# Altium footprint library PCB1.PcbLib: 40 footprints (part 2 of 3)
Each footprint in its own frame and in the unit in brackets; x right, y up, seen from the top. Pads: shape width x height; smd on the part's side, far side on the other; paste and mask are expansions set on the pad; w line width, h text height; cw(c..) or ccw(c..) is an arc to the next point about the centre after c.
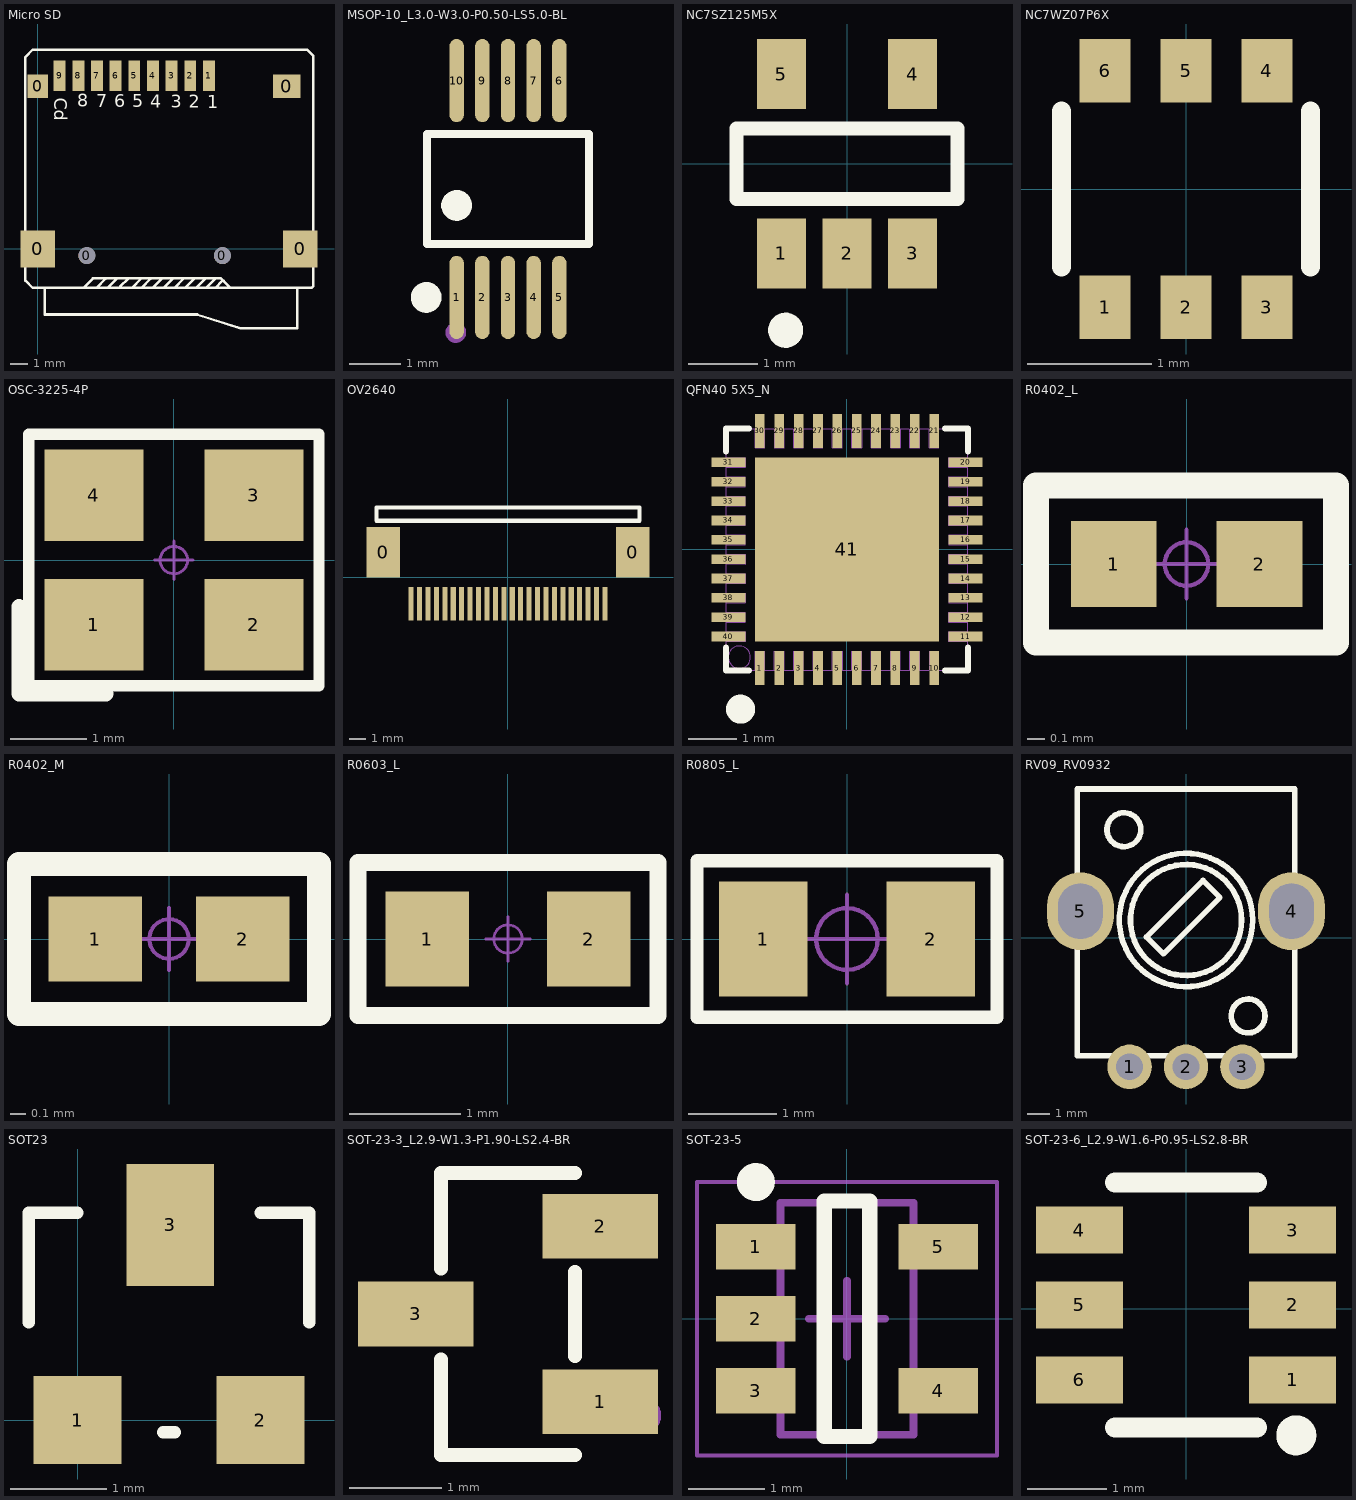
[diagram p1: the footprints below, top view; thin cyan lines are the x and y axes]

## Micro SD [mm]
pads (15):
  rect 2.032x2.2 smd: 0(0,0) 0(15.5,0)
  rect 1.2x1.4 smd: 0(0,9.6)
  round 1 hole 1 unplated: 0(2.9,-0.4) 0(10.9,-0.4)
  rect 1.6x1.4 smd: 0(14.7,9.6)
  rect 0.7x1.8 smd: 1(10.1,10.227) 2(9,10.227) 3(7.9,10.227) 4(6.8,10.227) 5(5.7,10.227) 6(4.6,10.227) 7(3.5,10.227) 8(2.4,10.227) 9(1.3,10.227)
Top Overlay:
  lines w0.152: 0.423,-2.295 0.423,-3.87 9.414,-3.87 ; 3.471,-2.295 4.004,-1.762 4.004,-1.736 ; 4.131,-2.295 4.639,-1.787 4.639,-1.736 ; 4.868,-2.295 4.868,-2.219 5.35,-1.736 ; 5.553,-2.295 6.112,-1.736 6.138,-1.736 ; 6.138,-2.295 6.671,-1.762 6.671,-1.736 ; 6.773,-2.295 7.331,-1.736 7.433,-1.736 ; 7.433,-2.295 7.992,-1.736 8.017,-1.736 ; 8.068,-2.295 8.601,-1.762 8.601,-1.736 ; 8.703,-2.295 9.262,-1.736 9.389,-1.736 ; 9.338,-2.295 9.897,-1.736 9.922,-1.736 ; 9.389,-3.87 11.954,-4.683 15.307,-4.683 15.307,-2.321 ; 9.922,-2.295 10.481,-1.736 ; 10.481,-2.295 10.887,-1.889 10.964,-1.889 ; -0.289,-2.295 -0.72,-1.863 -0.72,11.319 -0.289,11.751 15.891,11.751 16.272,11.37 16.272,-2.194 16.171,-2.295 ; -0.289,-2.295 16.171,-2.295 ; -0.289,-2.295 2.709,-2.295 3.267,-1.736 10.811,-1.736 11.37,-2.295 16.171,-2.295
  text "Cd" at 0.981,8.932 h0.76
  text "8" at 2.328,8.373 h0.76
  text "7" at 3.445,8.347 h0.76
  text "6" at 4.512,8.347 h0.76
  text "5" at 5.579,8.347 h0.76
  text "4" at 6.646,8.322 h0.76
  text "3" at 7.839,8.322 h0.76
  text "2" at 8.906,8.322 h0.76
  text "1" at 9.998,8.297 h0.76
3D body "sdcard.STEP": height 1.8, standoff -0.7, extent -0.272,-4.625 16.002,10.569

## MSOP-10_L3.0-W3.0-P0.50-LS5.0-BL [mm]
pads (10):
  oval 0.28x1.62 smd paste+0 mask+0.051: 1(456.035,-344.857) 2(456.535,-344.857) 3(457.035,-344.857) 4(457.535,-344.857) 5(458.035,-344.857) 6(458.035,-340.637) 7(457.535,-340.637) 8(457.035,-340.637) 9(456.535,-340.637) 10(456.035,-340.637)
Top Overlay:
  circle w0.3: c455.443,-344.857 r0.15
  circle w0.3: c456.035,-343.066 r0.15
  lines w0.152: 455.459,-343.819 458.611,-343.819 458.611,-341.676 455.459,-341.676 455.459,-343.819
Mechanical 15:
  circle w0.2: c456.019,-345.541 r0.1

## NC7SZ125M5X [mil]
pads (5):
  rect 28x40 smd: 1(-37.4,-51.18) 2(0,-51.18) 3(37.4,-51.18) 4(37.4,51.18) 5(-37.4,51.18)
Top Overlay:
  circle w10: c-35,-95 r5
  lines w8: -63,-20 -63,20 63,20 63,-20 -63,-20

## NC7WZ07P6X [mil]
pads (6):
  rect 16x20 smd: 1(-25.59,-37.4) 2(0,-37.4) 3(25.59,-37.4) 4(25.59,37.4) 5(0,37.4) 6(-25.59,37.4)
Top Overlay:
  lines w6: -39.37,-24.61 -39.37,24.61 ; 39.37,-24.61 39.37,24.61

## OSC-3225-4P [mm]
pads (4):
  rect 1.3x1.2 smd: 1(-1.05,-0.85) 2(1.05,-0.85) 3(1.05,0.85) 4(-1.05,0.85)
Top Overlay:
  lines w0.15: -1.905,-1.651 1.905,-1.651 1.905,1.651 -1.905,1.651 -1.905,-1.651
  lines w0.2: -2.032,-1.753 -0.889,-1.753 ; -2.032,-1.727 -2.032,-0.61
Mechanical 15:
  circle w0.04: c0,0 r0.18
  lines w0.04: -0.254,0 0.254,0 ; 0,-0.254 0,0.254
3D body "OSC_3225-4.STEP": height 0.7, standoff -0.02, extent -1.6,-1.25 1.6,1.25

## OV2640 [mm]
pads (26):
  rect 2x3 smd: 0(-7.4,1.476) 0(7.4,1.476)
  rect 0.3x2 smd: 1(-5.746,-1.574) 2(-5.248,-1.576) 3(-4.748,-1.576) 4(-4.248,-1.576) 5(-3.748,-1.576) 6(-3.248,-1.576) 7(-2.748,-1.576) 8(-2.248,-1.576) 9(-1.748,-1.576) 10(-1.248,-1.576) 11(-0.748,-1.576) 12(-0.248,-1.576) 13(0.252,-1.576) 14(0.752,-1.576) 15(1.252,-1.576) 16(1.752,-1.576) 17(2.252,-1.576) 18(2.752,-1.576) 19(3.252,-1.576) 20(3.752,-1.576) 21(4.252,-1.576) 22(4.752,-1.576) 23(5.252,-1.576) 24(5.752,-1.576)
Top Overlay:
  lines w0.254: -7.8,3.342 7.8,3.342 7.8,4.135 -7.8,4.135 -7.8,3.342

## QFN40 5X5_N [mm]
pads (41):
  rect 0.2x0.7 smd mask+0.05: 1(-1.8,-2.45) 2(-1.4,-2.45) 3(-1,-2.45) 4(-0.6,-2.45) 5(-0.2,-2.45) 6(0.2,-2.45) 7(0.6,-2.45) 8(1,-2.45) 9(1.4,-2.45) 10(1.8,-2.45) 21(1.8,2.45) 22(1.4,2.45) 23(1,2.45) 24(0.6,2.45) 25(0.2,2.45) 26(-0.2,2.45) 27(-0.6,2.45) 28(-1,2.45) 29(-1.4,2.45) 30(-1.8,2.45)
  rect 0.7x0.2 smd mask+0.05: 11(2.45,-1.8) 12(2.45,-1.4) 13(2.45,-1) 14(2.45,-0.6) 15(2.45,-0.2) 16(2.45,0.2) 17(2.45,0.6) 18(2.45,1) 19(2.45,1.4) 20(2.45,1.8) 31(-2.45,1.8) 32(-2.45,1.4) 33(-2.45,1) 34(-2.45,0.6) 35(-2.45,0.2) 36(-2.45,-0.2) 37(-2.45,-0.6) 38(-2.45,-1) 39(-2.45,-1.4) 40(-2.45,-1.8)
  rect 3.8x3.8 smd mask+0.05: 41(0,0)
Top Overlay:
  circle w0.4: c-2.2,-3.3 r0.1
  lines w0.12: -2.5,-2.025 -2.5,-2.5 -2.025,-2.5 ; -2.5,2.025 -2.5,2.5 -2.025,2.5 ; 2.025,-2.5 2.5,-2.5 2.5,-2.025 ; 2.025,2.5 2.5,2.5 2.5,2.025
Mechanical 13:
  circle w0.01: c-2.225,-2.225 r0.23
  lines w0.01: -2.5,-1.9 -2.1,-1.9 -2.1,-1.7 -2.5,-1.7 ; -2.5,-1.5 -2.1,-1.5 -2.1,-1.3 -2.5,-1.3 ; -2.5,-1.1 -2.1,-1.1 -2.1,-0.9 -2.5,-0.9 ; -2.5,-0.7 -2.1,-0.7 -2.1,-0.5 -2.5,-0.5 ; -2.5,-0.3 -2.1,-0.3 -2.1,-0.1 -2.5,-0.1 ; -2.5,0.1 -2.1,0.1 -2.1,0.3 -2.5,0.3 ; -2.5,0.5 -2.1,0.5 -2.1,0.7 -2.5,0.7 ; -2.5,0.9 -2.1,0.9 -2.1,1.1 -2.5,1.1 ; -2.5,1.3 -2.1,1.3 -2.1,1.5 -2.5,1.5 ; -2.5,1.7 -2.1,1.7 -2.1,1.9 -2.5,1.9 ; -1.9,-2.5 -1.9,-2.1 -1.7,-2.1 -1.7,-2.5 ; -1.9,2.5 -1.9,2.1 -1.7,2.1 -1.7,2.5 ; -1.5,-2.5 -1.5,-2.1 -1.3,-2.1 -1.3,-2.5 ; -1.5,2.5 -1.5,2.1 -1.3,2.1 -1.3,2.5 ; -1.1,-2.5 -1.1,-2.1 -0.9,-2.1 -0.9,-2.5 ; -1.1,2.5 -1.1,2.1 -0.9,2.1 -0.9,2.5 ; -0.7,-2.5 -0.7,-2.1 -0.5,-2.1 -0.5,-2.5 ; -0.7,2.5 -0.7,2.1 -0.5,2.1 -0.5,2.5 ; -0.3,-2.5 -0.3,-2.1 -0.1,-2.1 -0.1,-2.5 ; -0.3,2.5 -0.3,2.1 -0.1,2.1 -0.1,2.5 ; 0.1,-2.5 0.1,-2.1 0.3,-2.1 0.3,-2.5 ; 0.1,2.5 0.1,2.1 0.3,2.1 0.3,2.5 ; 0.5,-2.5 0.5,-2.1 0.7,-2.1 0.7,-2.5 ; 0.5,2.5 0.5,2.1 0.7,2.1 0.7,2.5 ; 0.9,-2.5 0.9,-2.1 1.1,-2.1 1.1,-2.5 ; 0.9,2.5 0.9,2.1 1.1,2.1 1.1,2.5 ; 1.3,-2.5 1.3,-2.1 1.5,-2.1 1.5,-2.5 ; 1.3,2.5 1.3,2.1 1.5,2.1 1.5,2.5 ; 1.7,-2.5 1.7,-2.1 1.9,-2.1 1.9,-2.5 ; 1.7,2.5 1.7,2.1 1.9,2.1 1.9,2.5 ; 2.5,-1.9 2.1,-1.9 2.1,-1.7 2.5,-1.7 ; 2.5,-1.5 2.1,-1.5 2.1,-1.3 2.5,-1.3 ; 2.5,-1.1 2.1,-1.1 2.1,-0.9 2.5,-0.9 ; 2.5,-0.7 2.1,-0.7 2.1,-0.5 2.5,-0.5 ; 2.5,-0.3 2.1,-0.3 2.1,-0.1 2.5,-0.1 ; 2.5,0.1 2.1,0.1 2.1,0.3 2.5,0.3 ; 2.5,0.5 2.1,0.5 2.1,0.7 2.5,0.7 ; 2.5,0.9 2.1,0.9 2.1,1.1 2.5,1.1 ; 2.5,1.3 2.1,1.3 2.1,1.5 2.5,1.5 ; 2.5,1.7 2.1,1.7 2.1,1.9 2.5,1.9 ; -2.5,-2.5 2.5,-2.5 2.5,2.5 -2.5,2.5 -2.5,-2.5 ; -1.85,-1.85 -1.85,1.85 1.85,1.85 1.85,-1.85 -1.85,-1.85
  text "41" at 0.15,-0.225 h0.5
  text "1" at -1.65,-2.35 h0.5
  text "10" at 1.95,-2.45 h0.5
  text "11" at 2.45,-1.975 h0.5
  text "20" at 2.45,1.575 h0.5
  text "21" at 1.95,2.05 h0.5
  text "30" at -1.65,2 h0.5
  text "31" at -2.125,1.6 h0.5
  text "40" at -2.125,-1.95 h0.5
3D body: height 0.73, standoff 0.73, extent -2.5,-2.5 2.5,2.5
3D body: height 0.74, standoff 0.73, extent -2.05,-2.248 -1.551,-1.75

## R0402_L [mm]
pads (2):
  rect 0.5x0.5 smd: 1(-0.425,0) 2(0.425,0)
Top Overlay:
  lines w0.152: -0.878,-0.457 0.872,-0.457 0.872,0.457 -0.878,0.457 -0.878,-0.457
Mechanical 15:
  circle w0.025: c0,0 r0.127
  lines w0.025: -0.2,0 0.2,0 ; 0,-0.2 0,0.2
3D body "R0402.STEP": height 0.3, standoff 0, extent -0.5,-0.25 0.5,0.25

## R0402_M [mm]
pads (2):
  rect 0.6x0.55 smd: 1(-0.475,0) 2(0.475,0)
Top Overlay:
  lines w0.152: -0.965,-0.483 0.965,-0.483 0.965,0.483 -0.965,0.483 -0.965,-0.483
Mechanical 15:
  circle w0.025: c0,0 r0.127
  lines w0.025: -0.2,0 0.2,0 ; 0,-0.2 0,0.2
3D body "R0402.STEP": height 0.3, standoff 0, extent -0.5,-0.25 0.5,0.25

## R0603_L [mm]
pads (2):
  rect 0.75x0.85 smd: 1(-0.725,0) 2(0.725,0)
Top Overlay:
  lines w0.152: -1.346,-0.686 1.346,-0.686 1.346,0.686 -1.346,0.686 -1.346,-0.686
Mechanical 15:
  circle w0.025: c0,0 r0.127
  lines w0.025: -0.2,0 0.2,0 ; 0,-0.2 0,0.2
3D body "R0603-2.stp": height 0.4, standoff 0, extent -0.8,-0.4 0.8,0.4

## R0805_L [mm]
pads (2):
  rect 1x1.3 smd: 1(-0.95,0) 2(0.95,0)
Top Overlay:
  lines w0.152: -1.702,-0.889 -1.702,0.889 1.702,0.889 1.702,-0.889 -1.702,-0.889
Mechanical 15:
  circle w0.05: c0,0 r0.35
  lines w0.05: -0.5,0 0.5,0 ; 0,-0.5 0,0.5
3D body "R0805-2.stp": height 0.5, standoff 0, extent -1,-0.625 1,0.625

## RV09_RV0932 [mm]
pads (5):
  round 2 hole 1.2 paste+0 mask+0.102: 1(-2.54,-5.813) 2(0,-5.813) 3(2.54,-5.813)
  oval 3x3.5 hole 2 slot 2.5 at 90 deg paste+0 mask+0.102: 4(4.75,1.187) 5(-4.75,1.187)
Top Overlay:
  circle w0.254: c0,0.791 r2.499
  circle w0.254: c0,0.791 r3
  circle w0.254: c2.794,-3.527 r0.762
  circle w0.254: c-2.794,4.855 r0.762
  lines w0.254: -4.9,-5.314 4.9,-5.314 4.9,6.686 -4.9,6.686 -4.9,-5.314 ; -1.778,0.029 -1.016,-0.733 1.524,1.807 0.762,2.569 -1.778,0.029

## SOT23 [mil]
pads (3):
  rect 36x36 smd: 1(0,0) 2(75,0)
  rect 36x50 smd: 3(38,80)
Top Overlay:
  lines w5: -20,40 -20,85 0,85 ; 35,-5 40,-5 ; 75,85 95,85 95,40

## SOT-23-3_L2.9-W1.3-P1.90-LS2.4-BR [mm]
pads (3):
  rect 1.25x0.7 smd paste+0 mask+0.051: 1(431.596,-422.514) 2(431.596,-420.614) 3(429.597,-421.564)
Top Overlay:
  lines w0.152: 429.87,-422.058 429.87,-423.09 431.323,-423.09 ; 429.87,-421.069 429.87,-420.038 431.323,-420.038 ; 431.323,-422.019 431.323,-421.108
Mechanical 15:
  circle w0.2: c432.057,-422.664 r0.1

## SOT-23-5 [mm]
height 1.1
pads (5):
  rect 1.05x0.6 smd: 1(-1.2,0.95) 2(-1.2,0) 3(-1.2,-0.95) 4(1.2,-0.95) 5(1.2,0.95)
Top Overlay:
  circle w0.25: c-1.2,1.8 r0.125
  lines w0.2: -0.3,-1.55 0.3,-1.55 0.3,1.55 -0.3,1.55 -0.3,-1.55
Mechanical 13:
  lines w0.1: -0.875,-1.525 0.875,-1.525 0.875,1.525 -0.875,1.525 -0.875,-1.525
Mechanical 15:
  lines w0.05: -1.975,-1.8 -1.975,1.8 1.975,1.8 1.975,-1.8 -1.975,-1.8
  lines w0.1: -0.5,0 0.5,0 ; 0,-0.5 0,0.5
3D body "SOT23-5.STEP": height 1.15, standoff -0.03, extent -1.403,-1.5 1.403,1.5

## SOT-23-6_L2.9-W1.6-P0.95-LS2.8-BR [mm]
pads (6):
  rect 1.1x0.6 smd paste+0 mask+0.051: 1(1.35,-0.899) 2(1.35,0.051) 3(1.35,1.001) 4(-1.35,1.001) 5(-1.35,0.051) 6(-1.35,-0.899)
Top Overlay:
  circle w0.254: c1.397,-1.6 r0.127
  lines w0.254: -0.9,-1.5 0.9,-1.5 ; -0.9,1.6 0.9,1.6
Mechanical 15:
  circle w0.2: c1.4,-0.899 r0.1